# Altium footprint library PCB - CONNECTOR - HARWIN - HARWIN M20-7830645.PcbLib: 1 footprints
Each footprint in its own frame and in the unit in brackets; x right, y up, seen from the top. Pads: shape width x height; smd on the part's side, far side on the other; paste and mask are expansions set on the pad; w line width, h text height; cw(c..) or ccw(c..) is an arc to the next point about the centre after c.
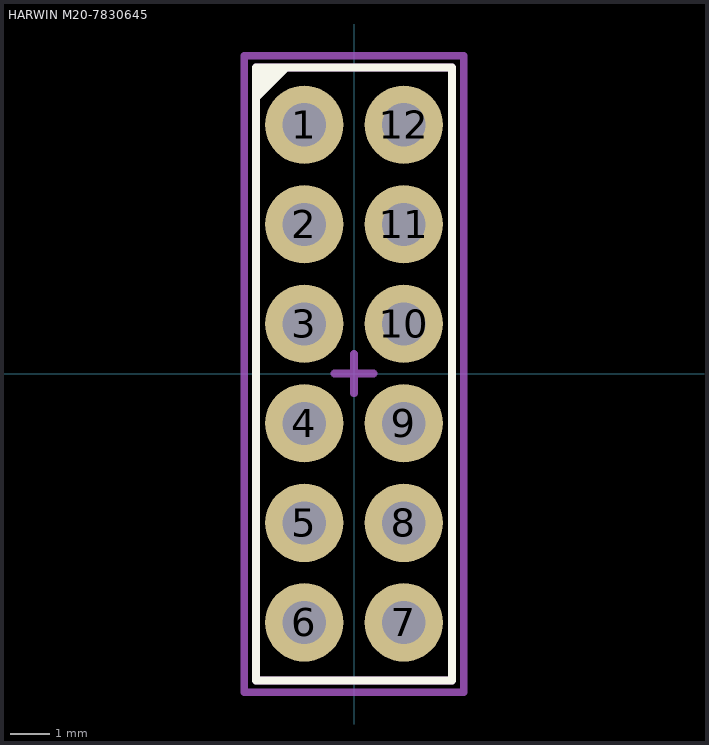
[diagram p0: the footprint, top view; thin cyan lines are the x and y axes]

## HARWIN M20-7830645 [mm] "2.54mm DIL PC TAIL PIN HEADER ASSEMBLY"
height 5
pads (12):
  round 2 hole 1.1: 1(-1.27,6.35) 2(-1.27,3.81) 3(-1.27,1.27) 4(-1.27,-1.27) 5(-1.27,-3.81) 6(-1.27,-6.35) 7(1.27,-6.35) 8(1.27,-3.81) 9(1.27,-1.27) 10(1.27,1.27) 11(1.27,3.81) 12(1.27,6.35)
Top Overlay:
  region: -2.5,7.81 -2.5,6.91 -1.6,7.81
  lines w0.2: -2.5,-7.83 2.5,-7.83 2.5,7.81 -2.5,7.81 -2.5,-7.83
Top Assembly:
  lines w0.2: -0.5,0 0.5,0 ; 0,-0.5 0,0.5 ; -2.5,-7.83 2.5,-7.83 2.5,7.81 -2.5,7.81 -2.5,-7.83
Top Courtyard (Mech15):
  lines w0.2: -2.8,-8.13 2.8,-8.13 2.8,8.11 -2.8,8.11 -2.8,-8.13
3D body "M20-7830642.step": height 8.5, standoff -3, extent -2.52,-7.82 2.52,7.82